# EAGLE library part JP6E (library SCX3)
JUMPER
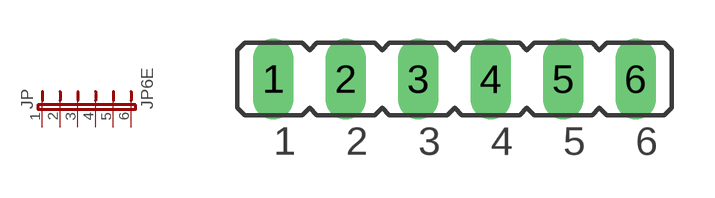
[diagram p7: symbol with the pads of JP6; footprint JP6]

Designator prefix JP

## JP6E  [JP6]
1  1  pas
2  2  pas
3  3  pas
4  4  pas
5  5  pas
6  6  pas

## Footprint JP6 (pad centres in mm)
JUMPER
drill 0.914 long: 1 -3.81,0; 2 -1.27,0; 3 1.27,0; 4 3.81,0; 5 6.35,0; 6 8.89,0